# EAGLE library part PIC18LF14K22-I/SO (library Microchip-PIC18LF14K22-I_SO)
Flash Microcontrollers
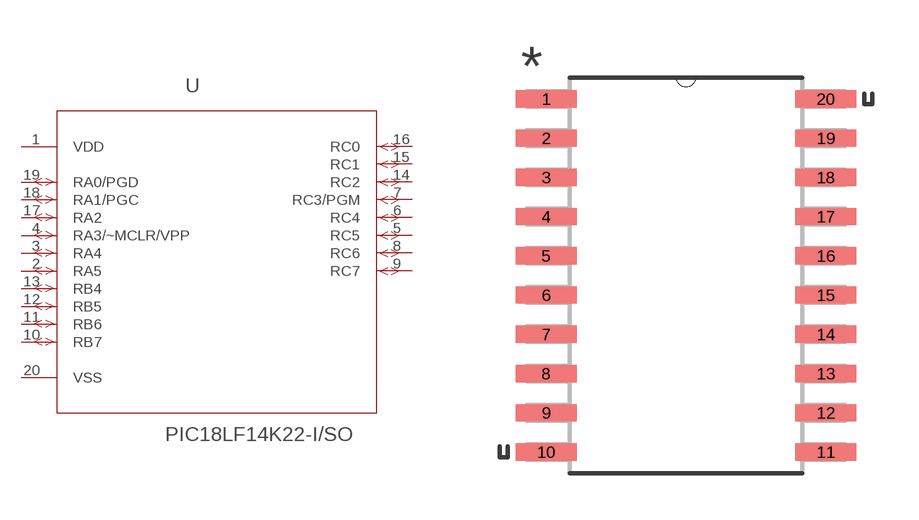
[diagram p0: symbol with the pads of SOIC127P1030X265-20N; footprint SOIC127P1030X265-20N]

Designator prefix -

## PIC18LF14K22-I/SO (DESCRIPTION: Flash Microcontrollers; MPN: PIC18LF14K22-I/SO; OC_FARNELL: 1770703; OC_NEWARK: 07P9712; PACKAGE: SOIC-20; SUPPLIER: Microchip)  [SOIC127P1030X265-20N]
1  VDD  pwr
2  RA5
3  RA4
4  RA3/~MCLR/VPP
5  RC5
6  RC4
7  RC3/PGM
8  RC6
9  RC7
10  RB7
11  RB6
12  RB5
13  RB4
14  RC2
15  RC1
16  RC0
17  RA2
18  RA1/PGC
19  RA0/PGD
20  VSS  pwr

## Footprint SOIC127P1030X265-20N (pad centres in mm)
smd 1.981 x 0.559: 1 -4.521,5.715; 2 -4.521,4.445; 3 -4.521,3.175; 4 -4.521,1.905; 5 -4.521,0.635; 6 -4.521,-0.635; 7 -4.521,-1.905; 8 -4.521,-3.175; 9 -4.521,-4.445; 10 -4.521,-5.715; 11 4.521,-5.715; 12 4.521,-4.445; 13 4.521,-3.175; 14 4.521,-1.905; 15 4.521,-0.635; 16 4.521,0.635; 17 4.521,1.905; 18 4.521,3.175; 19 4.521,4.445; 20 4.521,5.715